# Altium footprint library 贴片元器件.PCBLIB: 208 footprints (part 3 of 13)
Each footprint in its own frame and in the unit in brackets; x right, y up, seen from the top. Pads: shape width x height; smd on the part's side, far side on the other; paste and mask are expansions set on the pad; w line width, h text height; cw(c..) or ccw(c..) is an arc to the next point about the centre after c.
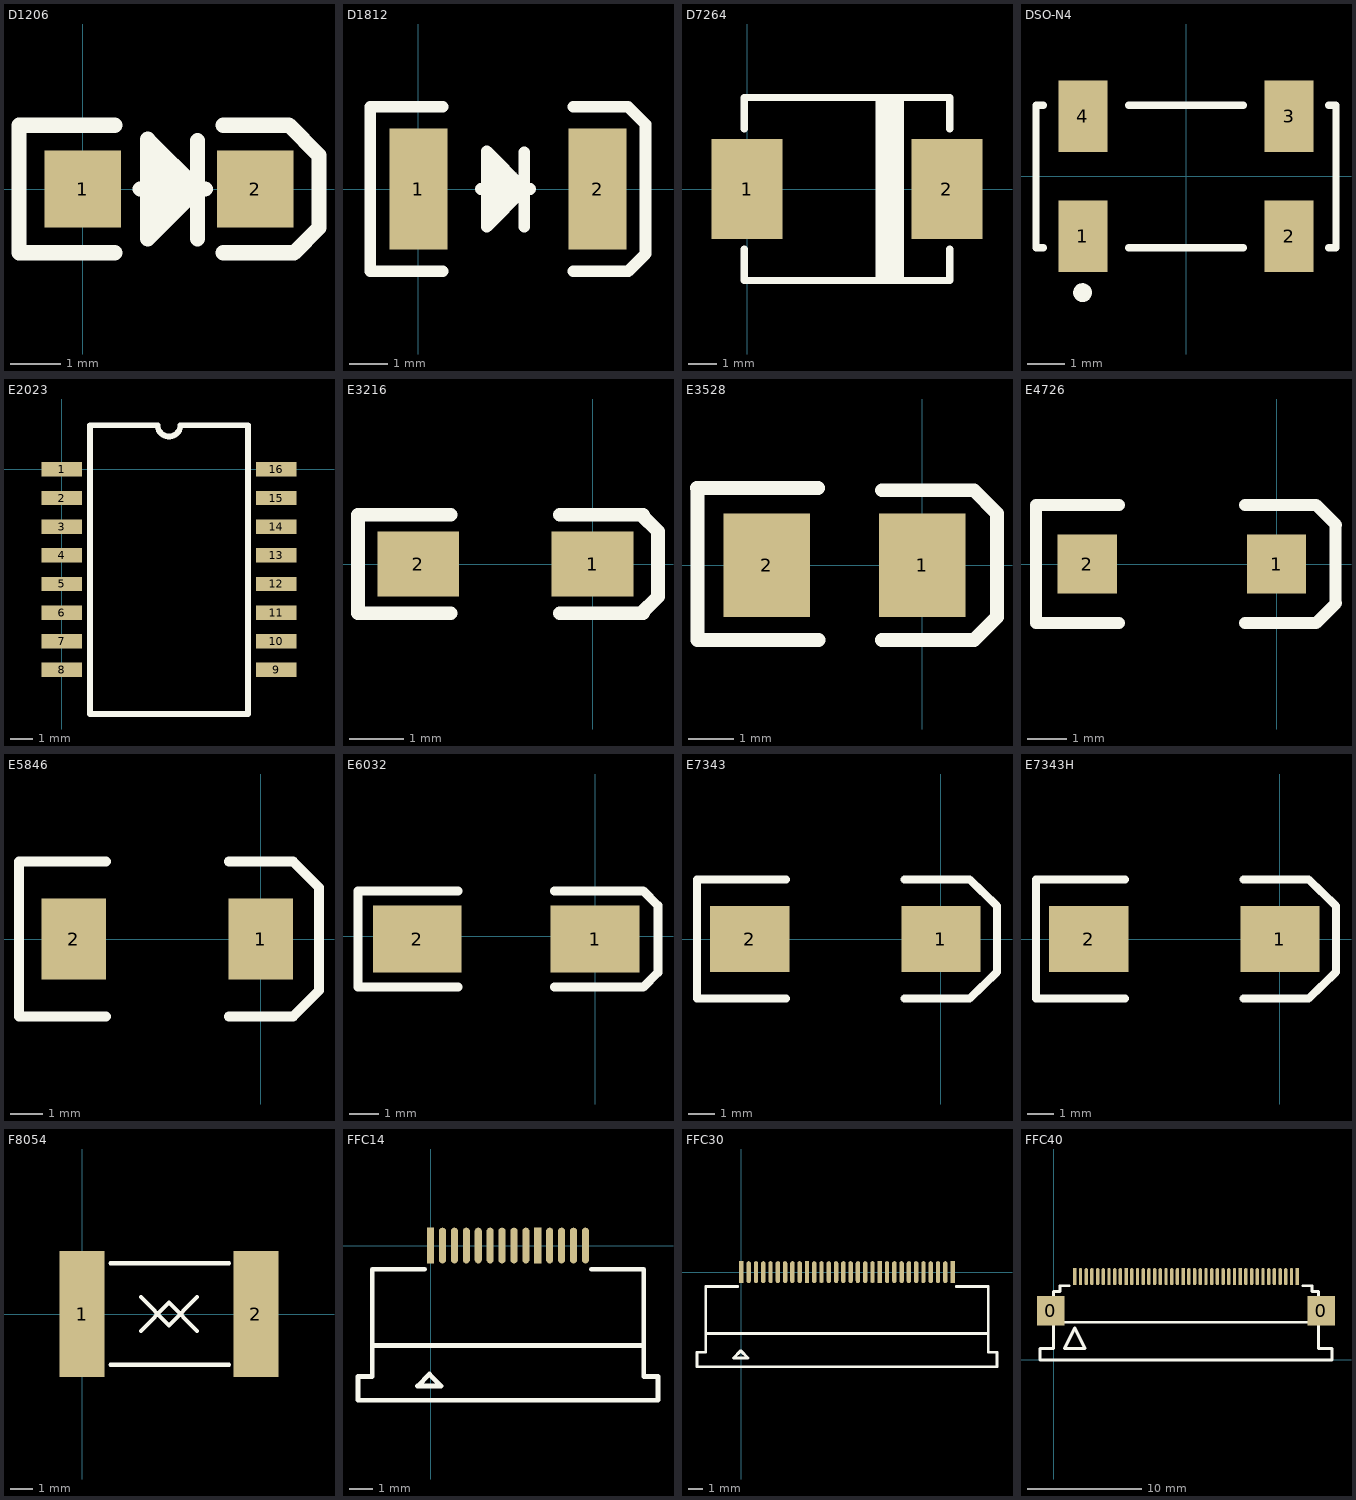
[diagram p2: the footprints below, top view; thin cyan lines are the x and y axes]

## D1206 [mil]
pads (2):
  rect 60x60 smd: 1(0,0) 2(135,0)
TopOverlay:
  lines w12: 25,-50 -50,-50 -50,50 25,50 ; 44.8,0 95.8,0 ; 55.8,-27 55.8,28 ; 60.8,-23 60.8,18 60.8,24 ; 64.8,-20 64.8,19 ; 69.8,-15 69.8,17 ; 72.8,-11 72.8,10 ; 77.18,-7.62 77.18,12.54 ; 79.8,-5 79.8,5 ; 89.76,-39.04 89.76,37.96 ; 110,-50 165.35,-50 185,-30.35 185,26.42 161.42,50 110,50 ; 50.76,-39.04 50.76,38.96 89.76,-0.04 50.76,-39.04

## D1812 [mil]
pads (2):
  rect 60x125 smd: 1(0,0) 2(185,0)
TopOverlay:
  lines w12: 25,-85 -50,-85 -50,85 25,85 ; 64.48,0 115.48,0 ; 75.48,-27 75.48,28 ; 80.48,-23 80.48,18 80.48,24 ; 84.48,-20 84.48,19 ; 89.48,-15 89.48,17 ; 92.48,-11 92.48,10 ; 96.87,-7.62 96.87,12.54 ; 99.48,-5 99.48,5 ; 109.44,-39.04 109.44,37.96 ; 160,-85 216.93,-85 235,-66.93 ; 160,85 216.54,85 234.61,66.93 234.61,-66.54 ; 70.44,-39.04 109.44,-0.04 70.44,38.96 70.44,-39.04

## D7264 [mm]
pads (2):
  rect 2.5x3.5 smd: 1(0,0) 2(7,0)
TopOverlay:
  rectangle: 4.5,-3.2 5.5,3.2
  lines w0.254: -0.1,-2.1 -0.1,-3.2 7.1,-3.2 7.1,-2.1 ; -0.1,2.1 -0.1,3.2 7.1,3.2 7.1,2.1

## DSO-N4 [mm] "Crystal, SM; 4 Leads; Body 8 x 3.8 x 2.5 mm (LxWxH)"
height 2.5
pads (4):
  rect 1.3x1.9 smd: 1(-2.75,-1.6) 2(2.75,-1.6) 3(2.75,1.6) 4(-2.75,1.6)
TopOverlay:
  circle w0.25: c-2.76,-3.1 r0.125
  lines w0.2: -3.8,-1.9 -4,-1.9 -4,1.9 -3.8,1.9 ; -1.524,-1.9 1.524,-1.9 ; -1.524,1.9 1.524,1.9 ; 3.8,-1.9 4,-1.9 4,1.9 3.8,1.9

## E2023 [mm]
pads (16):
  rect 1.8x0.635 smd: 1(0,0) 2(0,-1.27) 3(0,-2.54) 4(0,-3.81) 5(0,-5.08) 6(0,-6.35) 7(0,-7.62) 8(0,-8.89) 9(9.5,-8.89) 10(9.5,-7.62) 11(9.5,-6.35) 12(9.5,-5.08) 13(9.5,-3.81) 14(9.5,-2.54) 15(9.5,-1.27) 16(9.5,0)
TopOverlay:
  lines w0.254: 1.25,-10.845 1.25,1.955 4.25,1.955 ccw(c4.75,1.955) 5.25,1.955 8.25,1.955 8.25,-10.845 1.25,-10.845

## E3216 [mm]
pads (2):
  rect 1.5x1.2 smd: 1(0,0) 2(-3.194,0)
TopOverlay:
  lines w0.25: -2.6,-0.9 -4.3,-0.9 -4.3,0.9 -2.6,0.9 ; -0.6,-0.9 0.924,-0.9 ; -0.6,0.9 0.924,0.9 ; 0.9,-0.9 1.181,-0.619 ; 0.9,0.9 1.2,0.6 1.2,-0.6

## E3528 [mil]
pads (2):
  rect 75x90 smd: 1(0,0) 2(-135,0)
TopOverlay:
  lines w12: -195.55,66.93 -90.55,66.93 ; -195,65 -195,-65 -90,-65 ; -35,-65 45,-65 65,-45 65,45 45,65 -35,65

## E4726 [mm]
pads (2):
  rect 1.5x1.5 smd: 1(0,0) 2(-4.8,0)
TopOverlay:
  lines w0.305: -4,-1.5 -6.1,-1.5 -6.1,1.5 -4,1.5 ; -0.8,-1.5 1,-1.5 1.508,-0.992 ; -0.8,1.5 1,1.5 1.508,0.992 ; 1.5,-1 1.5,1

## E5846 [mm]
pads (2):
  rect 2x2.5 smd: 1(0,0) 2(-5.8,0)
TopOverlay:
  lines w0.305: -4.8,-2.4 -7.5,-2.4 -7.5,2.4 -4.8,2.4 ; -1,-2.4 1,-2.4 1.8,-1.6 1.8,1.6 1,2.4 -1,2.4

## E6032 [mil]
pads (2):
  rect 120x90 smd: 1(0,-3.94) 2(-240,-3.94)
TopOverlay:
  lines w12: -185,-68.94 -320,-68.94 -320,61.06 -185,61.06 ; -55,-68.94 65,-68.94 85,-48.94 85,41.06 65,61.06 -55,61.06

## E7343 [mil]
pads (2):
  rect 120x100 smd: 1(0,0) 2(-290,0)
TopOverlay:
  lines w12: -235.08,-90.55 -370.08,-90.55 -370.08,90.55 -235.08,90.55 ; -55.12,-90.55 43.31,-90.55 85,-50 85,50 43.31,90.55 -55.12,90.55

## E7343H [mil]
pads (2):
  rect 120x100 smd: 1(0,0) 2(-290,0)
TopOverlay:
  lines w12: -235.08,-90.55 -370.08,-90.55 -370.08,90.55 -235.08,90.55 ; -55.12,-90.55 43.31,-90.55 85,-50 85,50 43.31,90.55 -55.12,90.55

## F8054 [mm]
pads (2):
  rect 2x5.6 smd: 1(0,0) 2(7.7,0)
TopOverlay:
  lines w0.178: 1.25,-2.25 6.5,-2.25 ; 1.25,2.25 6.5,2.25 ; 2.6,-0.75 3.85,0.5 5.1,-0.75 ; 2.6,0.75 3.85,-0.5 5.1,0.75

## FFC14 [mm]
pads (14):
  rect 0.3x1.5 smd: 1(0,0) 10(4.5,0)
  oval 0.3x1.5 smd: 2(0.5,0) 3(1,0) 4(1.5,0) 5(2,0) 6(2.5,0) 7(3,0) 8(3.5,0) 9(4,0) 11(5,0) 12(5.5,0) 13(6,0) 14(6.5,0)
TopOverlay:
  lines w0.2: -2.45,-4.2 8.95,-4.2 ; -0.25,-1 -2.45,-1 -2.45,-5.5 -3.05,-5.5 -3.05,-6.5 9.55,-6.5 9.55,-5.5 8.95,-5.5 8.95,-1 6.75,-1 ; -0.55,-5.9 -0.05,-5.4 0.45,-5.9 -0.55,-5.9

## FFC30 [mm]
pads (30):
  rect 0.3x1.5 smd: 1(0,0) 10(4.5,0) 20(9.5,0) 30(14.5,0)
  oval 0.3x1.5 smd: 2(0.5,0) 3(1,0) 4(1.5,0) 5(2,0) 6(2.5,0) 7(3,0) 8(3.5,0) 9(4,0) 11(5,0) 12(5.5,0) 13(6,0) 14(6.5,0) 15(7,0) 16(7.5,0) 17(8,0) 18(8.5,0) 19(9,0) 21(10,0) 22(10.5,0) 23(11,0) 24(11.5,0) 25(12,0) 26(12.5,0) 27(13,0) 28(13.5,0) 29(14,0)
TopOverlay:
  lines w0.2: -2.45,-4.2 16.95,-4.2 ; -0.25,-1 -2.45,-1 -2.45,-5.5 -3.05,-5.5 -3.05,-6.5 17.55,-6.5 17.55,-5.5 16.95,-5.5 16.95,-1 14.75,-1 ; -0.55,-5.9 -0.05,-5.4 0.45,-5.9 -0.55,-5.9

## FFC40 [mm]
pads (42):
  rect 2.4x2.6 smd: 0(-0.25,4.3) 0(23.45,4.3)
  rect 0.3x1.5 smd: 1(1.85,7.3) 10(6.35,7.3) 20(11.35,7.3) 30(16.35,7.3) 40(21.35,7.3)
  oval 0.3x1.5 smd: 2(2.35,7.3) 3(2.85,7.3) 4(3.35,7.3) 5(3.85,7.3) 6(4.35,7.3) 7(4.85,7.3) 8(5.35,7.3) 9(5.85,7.3) 11(6.85,7.3) 12(7.35,7.3) 13(7.85,7.3) 14(8.35,7.3) 15(8.85,7.3) 16(9.35,7.3) 17(9.85,7.3) 18(10.35,7.3) 19(10.85,7.3) 21(11.85,7.3) 22(12.35,7.3) 23(12.85,7.3) 24(13.35,7.3) 25(13.85,7.3) 26(14.35,7.3) 27(14.85,7.3) 28(15.35,7.3) 29(15.85,7.3) 31(16.85,7.3) 32(17.35,7.3) 33(17.85,7.3) 34(18.35,7.3) 35(18.85,7.3) 36(19.35,7.3) 37(19.85,7.3) 38(20.35,7.3) 39(20.85,7.3)
TopOverlay:
  lines w0.254: 0,3.3 23.2,3.3 ; 1.35,6.5 0.55,6.5 0.55,6 0,6 0,1 -1.2,1 -1.2,0 0,0 23.2,0 24.4,0 24.4,1 23.2,1 23.2,6 22.65,6 22.65,6.5 21.85,6.5 ; 0.95,1 1.85,2.8 2.75,1 0.95,1